# Altium schematic symbol library LT1723IS8.Schlib: 1 symbol
Pins are listed as number, name and electrical type; pins without a type are passive.

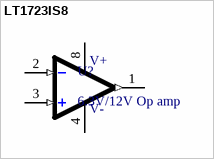
[diagram p0: symbol LT1723IS8]

## LT1723IS8
designator U?, comment 6.3V/12V Op amp
IC OPAMP VFB 200MHZ 8SO
pins: 1 OUT1 (out), 2 IN1- (in), 3 IN1+ (in), 4 V- (power), 8 V+ (power)